# Altium schematic symbol library AD835ARZ.SCHLIB: 1 symbol
Pins are listed as number, name and electrical type; pins without a type are passive.

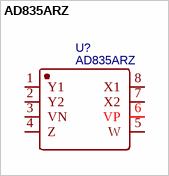
[diagram p0: symbol AD835ARZ]

## AD835ARZ
designator U?
BOM_Manufacturer: ADI; spicePre: X; BOM_Supplier: LCSC; BOM_Manufacturer Part: AD835ARZ; BOM_Supplier Part: C26332; BOM_JLCPCB Part Class: Extended Part; spiceSymbolName: AD835ARZ
footprint AD835arz
pins: 1 Y1, 2 Y2, 3 VN, 4 Z, 5 W, 6 VP, 7 X2, 8 X1